# Altium schematic symbol library NikoboticsSch.SchLib: 50 symbols
Pins are listed as number, name and electrical type; pins without a type are passive.

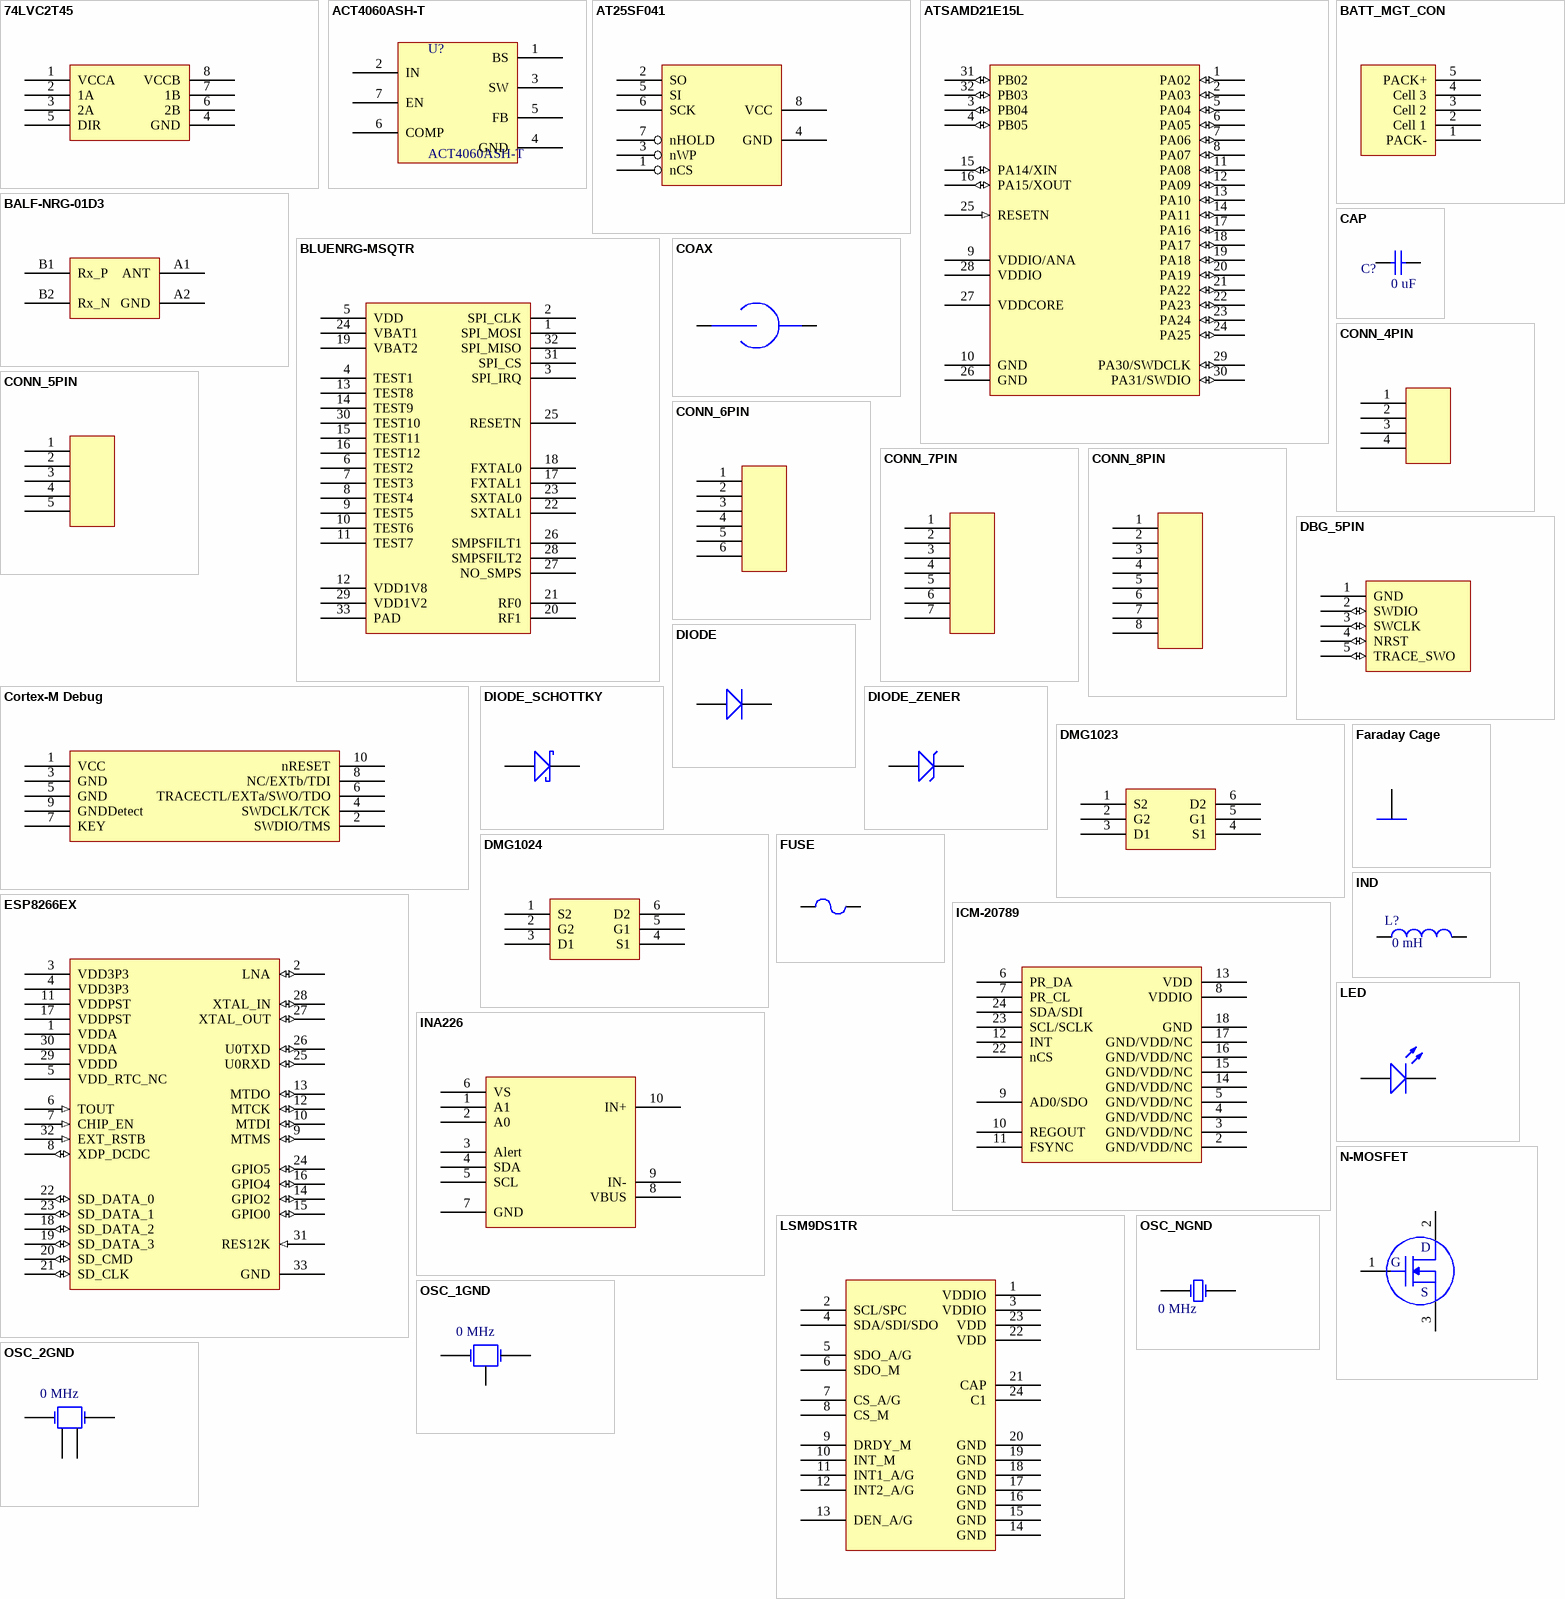
[diagram p0: symbols 74LVC2T45 to OSC_NGND]

## 74LVC2T45
designator U?
Voltage Level Translator Bidirectional 1 Circuit 2 Channel 420Mbps 8-XSON; ComponentLink1Description: DigiKey; ComponentLink1URL: https://www.digikey.com/product-detail/en/nexperia-usa-inc/74LVC2T45GT115/1727-4581-1-ND/2530960; ComponentLink2Description: Datasheet; ComponentLink2URL: https://assets.nexperia.com/documents/data-sheet/74LVC_LVCH2T45.pdf
pins: 1 VCCA, 2 1A, 3 2A, 4 GND, 5 DIR, 6 2B, 7 1B, 8 VCCB

## ACT4060ASH-T
designator U?
Buck Switching Regulator IC Positive Adjustable 1.293V 1 Output 2A; ComponentLink1Description: DigiKey; ComponentLink1URL: https://www.digikey.com/product-detail/en/active-semi-international-inc/ACT4060ASH-T/1488-1107-1-ND/7897251; ComponentLink2Description: Datasheet; ComponentLink2URL: https://active-semi.com/wp-content/uploads/ACT4060A_Datasheet.pdf
footprint TSOP127P600X155-8L (TSOP, 8-Leads, Body 4.90x3.90mm, Pitch 1.27mm, IPC High Density)
pins: 1 BS, 2 IN, 3 SW, 4 GND, 5 FB, 6 COMP, 7 EN, 8 NC hidden

## AT25SF041
designator U?
FLASH Memory IC 4Mb (512K x 8) SPI 104MHz  8-SOIC; ComponentLink1Description: DigiKey; ComponentLink1URL: https://www.digikey.com/product-detail/en/active-semi-international-inc/ACT4060ASH-T/1488-1107-1-ND/7897251; ComponentLink2Description: Datasheet; ComponentLink2URL: https://active-semi.com/wp-content/uploads/ACT4060A_Datasheet.pdf
footprint SOIC127P600X175-8L (SOIC, 8-Leads, Body 4.93x3.90mm, Pitch 1.27mm, IPC High Density)
pins: 1 nCS, 2 SO, 3 nWP, 4 GND (power), 5 SI, 6 SCK, 7 nHOLD, 8 VCC (power)

## ATSAMD21E15L
designator U?
ARM® Cortex®-M0+ SAM D21E Microcontroller IC 32-Bit 48MHz 32KB (32K x 8) FLASH; ComponentLink1Description: DigiKey; ComponentLink1URL: https://www.digikey.com/product-detail/en/microchip-technology/ATSAMD21E15L-MNT/1611-ATSAMD21E15L-MNTCT-ND/6832783; ComponentLink2Description: Datasheet; ComponentLink2URL: http://ww1.microchip.com/downloads/en/DeviceDoc/SAMD21-Family-DataSheet-DS40001882D.pdf
pins: 1 PA02 (io), 2 PA03 (io), 3 PB04 (io), 4 PB05 (io), 5 PA04 (io), 6 PA05 (io), 7 PA06 (io), 8 PA07 (io), 9 VDDIO/ANA (power), 10 GND (power), 11 PA08 (io), 12 PA09 (io), 13 PA10 (io), 14 PA11 (io), 15 PA14/XIN (io), 16 PA15/XOUT (io), 17 PA16 (io), 18 PA17 (io), 19 PA18 (io), 20 PA19 (io), 21 PA22 (io), 22 PA23 (io), 23 PA24 (io), 24 PA25 (io), 25 RESETN (in), 26 GND (power), 27 VDDCORE (power), 28 VDDIO (power), 29 PA30/SWDCLK (io), 30 PA31/SWDIO (io), 31 PB02 (io), 32 PB03 (io)

## BALF-NRG-01D3
designator U?
RF Balun 2.4GHz ~ 2.5GHz 50 / 50Ohm 4-WFBGA, FCBGA
pins: A1 ANT, A2 GND, B1 Rx_P, B2 Rx_N

## BATT_MGT_CON
designator J?, comment Battery Management Connection  (value not drawn)
Connection for Battery Management cable.
footprint S5B-ZR-SM4A-TF(LF)(SN)
pins: 1 PACK- (power), 2 Cell 1 (power), 3 Cell 2 (power), 4 Cell 3 (power), 5 PACK+ (power)

## BLUENRG-MSQTR
designator U?
IC RF TxRx + MCU Bluetooth Bluetooth v4.1 2.4GHz 32-VFQFN Exposed Pad; ComponentLink1Description: DigiKey; ComponentLink1URL: https://www.digikey.com/product-detail/en/stmicroelectronics/BLUENRG-MSQTR/497-15639-1-ND/5267982; ComponentLink2Description: Datasheet; ComponentLink2URL: https://www.st.com/content/ccc/resource/technical/document/datasheet/e8/76/3d/fb/28/e0/40/0b/DM00141263.pdf/files/DM00141263.pdf/jcr:content/translations/en.DM00141263.pdf; ComponentLink3Description: SPI Interface; ComponentLink3URL: https://www.st.com/content/ccc/resource/technical/document/user_manual/6d/a1/5b/6c/dc/ab/48/76/DM00162667.pdf/files/DM00162667.pdf/jcr:content/translations/en.DM00162667.pdf
pins: 1 SPI_MOSI, 2 SPI_CLK, 3 SPI_IRQ, 4 TEST1, 5 VDD, 6 TEST2, 7 TEST3, 8 TEST4, 9 TEST5, 10 TEST6, 11 TEST7, 12 VDD1V8, 13 TEST8, 14 TEST9, 15 TEST11, 16 TEST12, 17 FXTAL1, 18 FXTAL0, 19 VBAT2, 20 RF1, 21 RF0, 22 SXTAL1, 23 SXTAL0, 24 VBAT1, 25 RESETN, 26 SMPSFILT1, 27 NO_SMPS, 28 SMPSFILT2, 29 VDD1V2, 30 TEST10, 31 SPI_CS, 32 SPI_MISO, 33 PAD

## CAP
designator C?  value 0 uF  (hidden comment: CAP)
Standard Capacitor
pins: 1, 2
1 alternate drawing of the same symbol

## COAX
designator J?, comment Coaxial Connection  (value not drawn)
Coaxial Connection, e.g. to antennae
pins: 1 Pin, 2

## CONN_4PIN
designator J?, comment 4 Pin Connector  (value not drawn)
Standard 4 Pin Connector
pins: 1 Pin, 2 Pin, 3 Pin, 4 Pin

## CONN_5PIN
designator J?, comment 5 Pin Connector  (value not drawn)
Standard 5 Pin Connector
pins: 1 Pin, 2 Pin, 3 Pin, 4 Pin, 5 Pin

## CONN_6PIN
designator J?, comment 6 Pin Connector  (value not drawn)
Standard 6 Pin Connector
pins: 1 Pin, 2 Pin, 3 Pin, 4 Pin, 5 Pin, 6 Pin

## CONN_7PIN
designator J?, comment 7 Pin Connector  (value not drawn)
Standard 7 Pin Connector
pins: 1 Pin, 2 Pin, 3 Pin, 4 Pin, 5 Pin, 6 Pin, 7 Pin

## CONN_8PIN
designator J?, comment 8 Pin Connector  (value not drawn)
Standard 8 Pin Connector
pins: 1 Pin, 2 Pin, 3 Pin, 4 Pin, 5 Pin, 6 Pin, 7 Pin, 8 Pin

## Cortex-M Debug
designator J?, comment Debug Connector  (value not drawn)
10-Pin Cortex-M Debug Connector
pins: 1 VCC (power), 2 SWDIO/TMS, 3 GND (power), 4 SWDCLK/TCK, 5 GND (power), 6 TRACECTL/EXTa/SWO/TDO, 7 KEY, 8 NC/EXTb/TDI, 9 GNDDetect (power), 10 nRESET

## DBG_5PIN
designator J?, comment Debug Header  (value not drawn)
Five pin Debug Header SWD
pins: 1 GND (power), 2 SWDIO (io), 3 SWCLK (io), 4 NRST (io), 5 TRACE_SWO (io)

## DIODE
designator D?, comment Diode  (value not drawn)
Standard Diode
pins: 1 K, 2 A

## DIODE_SCHOTTKY
designator D?, comment Schottky Diode  (value not drawn)
Standard Schottky Diode
pins: 1 K, 2 A

## DIODE_ZENER
designator D?  (value not drawn)
Standard Zener Diode
pins: 1 K, 2 A

## DMG1023
designator U?
Mosfet Array 2 P-Channel (Dual) 20V 1.03A 530mW Surface Mount SOT-563; ComponentLink1Description: DigiKey; ComponentLink1URL: https://www.digikey.com/product-detail/en/diodes-incorporated/DMG1023UV-7/DMG1023UV-7DICT-ND/2270854; ComponentLink2Description: Datasheet; ComponentLink2URL: https://www.diodes.com/assets/Datasheets/ds31975.pdf
pins: 1 S2, 2 G2, 3 D1, 4 S1, 5 G1, 6 D2

## DMG1024
designator U?
Mosfet Array 2 N-Channel (Dual) 20V 1.38A 530mW Surface Mount SOT-563; ComponentLink3Description: DigiKey; ComponentLink3URL: https://www.digikey.com/product-detail/en/diodes-incorporated/DMG1024UV-7/DMG1024UV-7DICT-ND/2270855; ComponentLink4Description: Datasheet; ComponentLink4URL: https://www.diodes.com/assets/Datasheets/ds31974.pdf
pins: 1 S2, 2 G2, 3 D1, 4 S1, 5 G1, 6 D2

## ESP8266EX
designator U?
IC RF TxRx + MCU WiFi 802.11b/g/n 2.4GHz; ComponentLink1Description: DigiKey; ComponentLink1URL: https://www.digikey.com/product-detail/en/espressif-systems/ESP8266EX/1904-1001-1-ND/8028408; ComponentLink2Description: Datasheet; ComponentLink2URL: https://www.espressif.com/sites/default/files/documentation/0a-esp8266ex_datasheet_en.pdf
footprint *QFN50P500X500X80-33N
pins: 1 VDDA (power), 2 LNA (io), 3 VDD3P3 (power), 4 VDD3P3 (power), 5 VDD_RTC_NC (power), 6 TOUT (in), 7 CHIP_EN (in), 8 XDP_DCDC (io), 9 MTMS (io), 10 MTDI (io), 11 VDDPST (power), 12 MTCK (io), 13 MTDO (io), 14 GPIO2 (io), 15 GPIO0 (io), 16 GPIO4 (io), 17 VDDPST (power), 18 SD_DATA_2 (io), 19 SD_DATA_3 (io), 20 SD_CMD (io), 21 SD_CLK (io), 22 SD_DATA_0 (io), 23 SD_DATA_1 (io), 24 GPIO5 (io), 25 U0RXD (io), 26 U0TXD (io), 27 XTAL_OUT (io), 28 XTAL_IN (io), 29 VDDD (power), 30 VDDA (power), 31 RES12K (in), 32 EXT_RSTB (in), 33 GND (power)

## Faraday Cage
designator A?
Standard Faraday Cage
pins: 1 Pin

## FUSE
designator F?  (value not drawn)
Standard Fuse
pins: 1, 2

## ICM-20789
designator U?
Accelerometer, Gyroscope, Barometric Pressure Sensor. 3-Axis I2C; ComponentLink1Description: DigiKey; ComponentLink1URL: https://www.digikey.com/product-detail/en/tdk-invensense/ICM-20789/1428-1133-1-ND/7794714; ComponentLink2Description: Datasheet; ComponentLink2URL: http://www.invensense.com/wp-content/uploads/2017/10/DS-000169-ICM-20789-TYP-v1.3.pdf
footprint *PQFN50P400X400X146-24N
pins: 1 NC hidden, 2 GND/VDD/NC, 3 GND/VDD/NC, 4 GND/VDD/NC, 5 GND/VDD/NC, 6 PR_DA, 7 PR_CL, 8 VDDIO, 9 AD0/SDO, 10 REGOUT, 11 FSYNC, 12 INT, 13 VDD, 14 GND/VDD/NC, 15 GND/VDD/NC, 16 GND/VDD/NC, 17 GND/VDD/NC, 18 GND, 19 NC hidden, 20 NC hidden, 21 NC hidden, 22 nCS, 23 SCL/SCLK, 24 SDA/SDI

## INA226
designator U?
Current Monitor Regulator High/Low-Side 10mA
pins: 1 A1, 2 A0, 3 Alert, 4 SDA, 5 SCL, 6 VS, 7 GND, 8 VBUS, 9 IN-, 10 IN+

## IND
designator L?  value 0 mH  (hidden comment: IND)
Standard Inductor
pins: 1, 2

## LED
designator D?  (value not drawn)
Standard LED
pins: 1 K, 2 A

## LSM9DS1TR
designator U?
Accelerometer, Gyroscope, Magnetometer, Temperature, 3 Axis Sensor I²C, SPI Output; ComponentLink1Description: DigiKey; ComponentLink1URL: https://www.digikey.com/product-detail/en/stmicroelectronics/LSM9DS1TR/497-14946-1-ND/4988079; ComponentLink2Description: Datasheet; ComponentLink2URL: https://www.st.com/content/ccc/resource/technical/document/datasheet/1e/3f/2a/d6/25/eb/48/46/DM00103319.pdf/files/DM00103319.pdf/jcr:content/translations/en.DM00103319.pdf
footprint *PQFN43P300X350X102-24N
pins: 1 VDDIO, 2 SCL/SPC, 3 VDDIO, 4 SDA/SDI/SDO, 5 SDO_A/G, 6 SDO_M, 7 CS_A/G, 8 CS_M, 9 DRDY_M, 10 INT_M, 11 INT1_A/G, 12 INT2_A/G, 13 DEN_A/G, 14 GND, 15 GND, 16 GND, 17 GND, 18 GND, 19 GND, 20 GND, 21 CAP, 22 VDD, 23 VDD, 24 C1

## N-MOSFET
designator T?, comment N-CHAN
Standard N-Channel MOSFET. Check pins before designing footprint.
pins: 1 Pin, 2 Pin, 3 Pin
text: D; G; S

## OSC_1GND
designator X?, comment value 0 MHz  (hidden comment: Crystal Oscillator)
Standard Crystal Oscillator with a ground connection.
pins: 1 X1, 2 X2, 3 GND

## OSC_2GND
designator X?, comment value 0 MHz  (hidden comment: Crystal Oscillator)
Standard Crystal Oscillator with two ground connections.
pins: 1 X1, 2 GND, 3 X2, 4 GND

## OSC_NGND
designator X?, comment value 0 MHz  (hidden comment: Crystal Oscillator)
Standard Crystal Oscillator with no ground connection.
pins: 1 X1, 2 X2

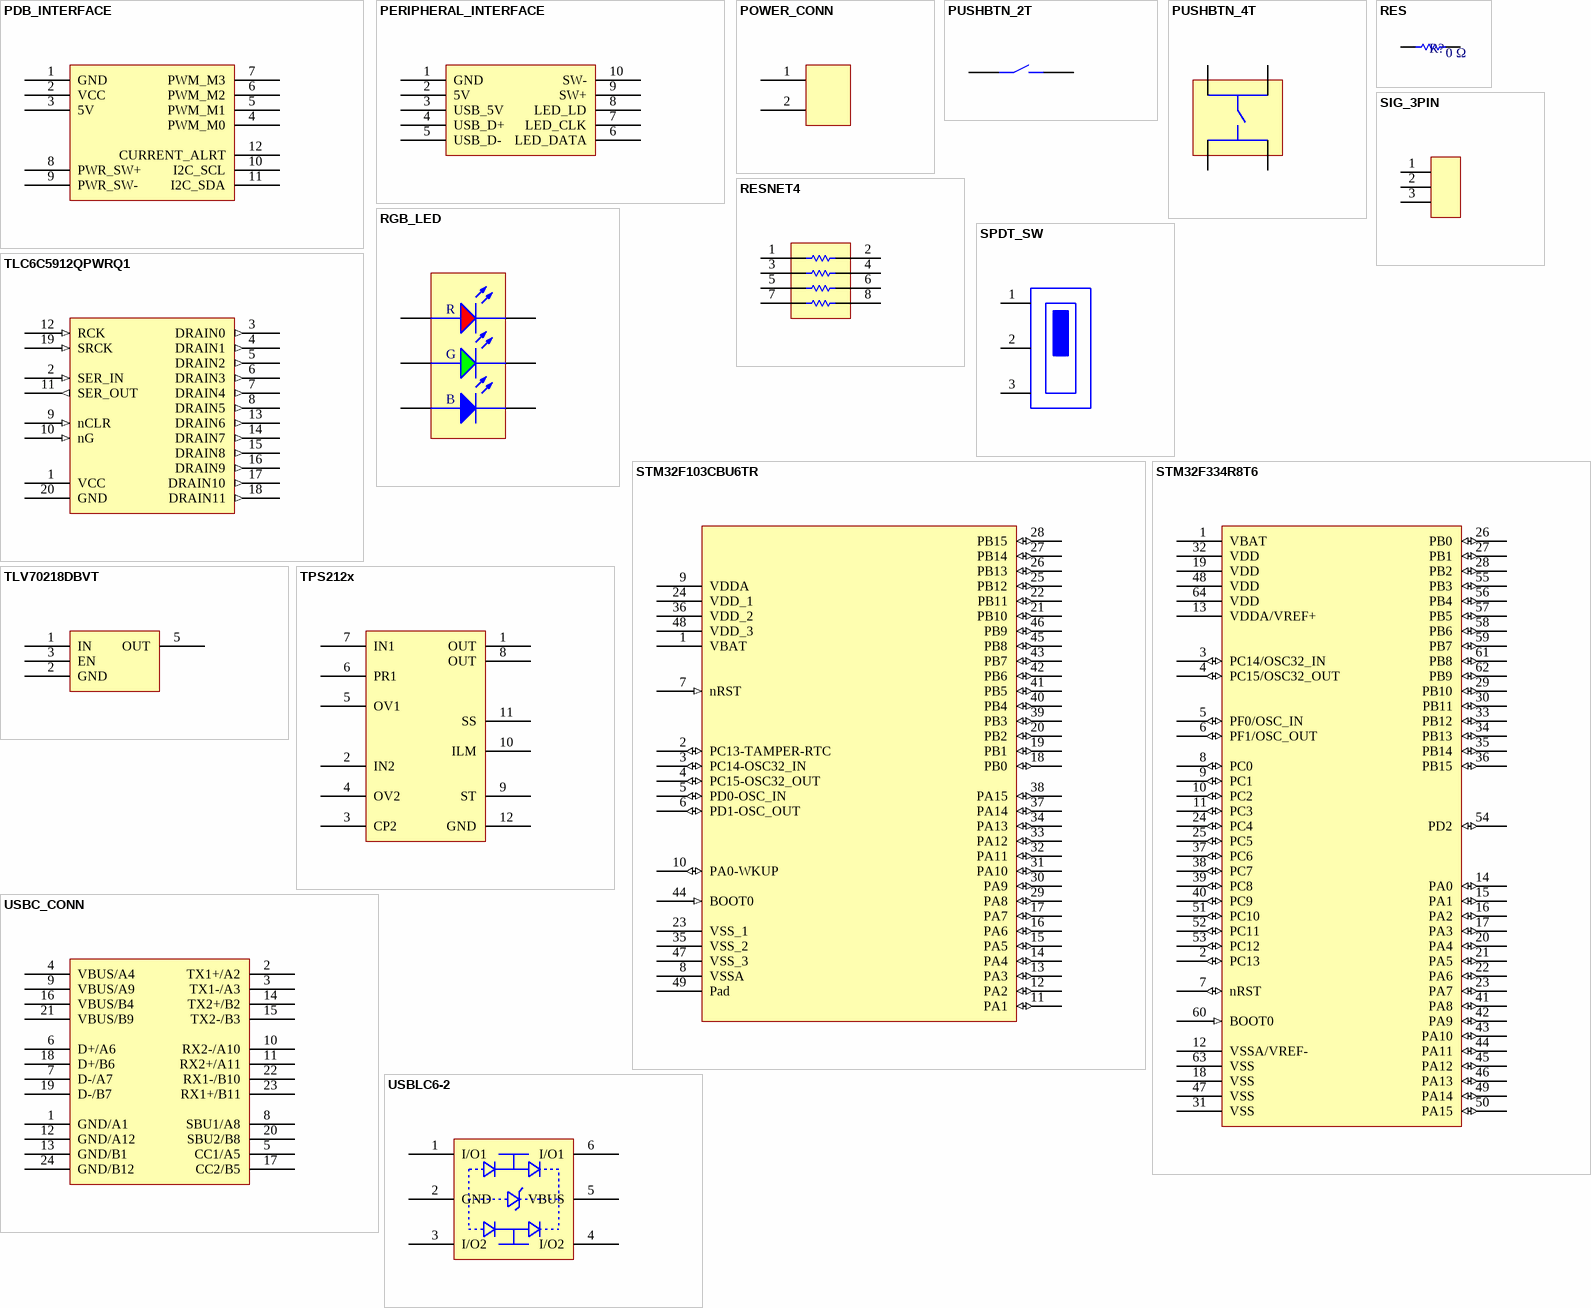
[diagram p1: symbols PDB_INTERFACE to USBLC6-2]

## PDB_INTERFACE
designator J?, comment Power Interface
Interface between power board and control board.
pins: 1 GND, 2 VCC, 3 5V, 4 PWM_M0, 5 PWM_M1, 6 PWM_M2, 7 PWM_M3, 8 PWR_SW+, 9 PWR_SW-, 10 I2C_SCL, 11 I2C_SDA, 12 CURRENT_ALRT

## PERIPHERAL_INTERFACE
designator J?, comment Peripheral Interface
Interface between peripheral board and control board.
footprint SFV10R-2STE1HLF
pins: 1 GND, 2 5V, 3 USB_5V, 4 USB_D+, 5 USB_D-, 6 LED_DATA, 7 LED_CLK, 8 LED_LD, 9 SW+, 10 SW-

## POWER_CONN
designator J?, comment Power Connector  (value not drawn)
Standard Power Connector
pins: 1 Pin, 2 Pin

## PUSHBTN_2T
designator S?, comment Pushbutton  (value not drawn)
Standard Pushbutton with 4 Terminals
pins: 1 Pin, 2 Pin

## PUSHBTN_4T
designator S?, comment Pushbutton  (value not drawn)
Standard Pushbutton with 4 Terminals
pins: 1   , 2 Pin, 3 Pin, 4 Pin

## RES
designator R?  value 0 Ω  (hidden comment: RES)
Standard Resistor
pins: 1, 2
1 alternate drawing of the same symbol

## RESNET4
designator R?, comment RESNET  (value not drawn)
Standard Resistor Network with 4 Resistors
footprint CAC-80P325X165-8L (Chip Array, Concave, 8-Leads, Pitch 0.80mm,  Body 3.25x1.65mm,  IPC High Density)
pins: 1 Pin, 2 Pin, 3 Pin, 4 Pin, 5 Pin, 6 Pin, 7 Pin, 8 Pin

## RGB_LED
designator D?, comment RGB LED  (value not drawn)
3-Channel LED (RGB)
footprint PLCC180P550X550X150-8N (Leaded Chip Carrier, 8-Leads, Body 5.50x5.50mm, Pitch 1.800mm, IPC Medium Density)
pins: 1 BC, 2 GC, 3 RC, 4 RA, 5 GA, 6 BA
text: R; G; B

## SIG_3PIN
designator J?, comment 3-Pin Signal  (value not drawn)
Standard 3-Pin Signal Connection
footprint Molex 0022232031
pins: 1 Pin, 2 Pin, 3 Pin

## SPDT_SW
designator S?  (value not drawn)
Standard Single-Pole Double-Throw Switch. Check pinning before assigning footprint.
footprint CL-SB-12B-01T-SLIDE
pins: 1 Pin, 2 Pin, 3 Pin

## STM32F103CBU6TR
designator U?
IC MCU 32BIT 128KB FLASH LQFP48; ComponentLink1Description: DigiKey; ComponentLink1URL: https://www.digikey.com/product-detail/en/stmicroelectronics/STM32F103CBU6TR/497-18757-1-ND/9958418; ComponentLink2Description: Datasheet; ComponentLink2URL: https://www.st.com/resource/en/datasheet/stm32f103cb.pdf
pins: 1 VBAT (power), 2 PC13-TAMPER-RTC (io), 3 PC14-OSC32_IN (io), 4 PC15-OSC32_OUT (io), 5 PD0-OSC_IN (io), 6 PD1-OSC_OUT (io), 7 nRST (in), 8 VSSA (power), 9 VDDA (power), 10 PA0-WKUP (io), 11 PA1 (io), 12 PA2 (io), 13 PA3 (io), 14 PA4 (io), 15 PA5 (io), 16 PA6 (io), 17 PA7 (io), 18 PB0 (io), 19 PB1 (io), 20 PB2 (io), 21 PB10 (io), 22 PB11 (io), 23 VSS_1 (power), 24 VDD_1 (power), 25 PB12 (io), 26 PB13 (io), 27 PB14 (io), 28 PB15 (io), 29 PA8 (io), 30 PA9 (io), 31 PA10 (io), 32 PA11 (io), 33 PA12 (io), 34 PA13 (io), 35 VSS_2 (power), 36 VDD_2 (power), 37 PA14 (io), 38 PA15 (io), 39 PB3 (io), 40 PB4 (io), 41 PB5 (io), 42 PB6 (io), 43 PB7 (io), 44 BOOT0 (in), 45 PB8 (io), 46 PB9 (io), 47 VSS_3 (power), 48 VDD_3 (power), 49 Pad (power)

## STM32F334R8T6
designator U?
ARM® Cortex®-M4 STM32F3 Microcontroller IC 32-Bit 72MHz 64KB (64K x 8) FLASH 64-LQFP (10x10); ComponentLink1Description: DigiKey; ComponentLink1URL: https://www.digikey.com/product-detail/en/stmicroelectronics/STM32F334R8T6/497-14955-ND/4989177; ComponentLink2Description: Datasheet; ComponentLink2URL: https://www.st.com/content/ccc/resource/technical/document/datasheet/d1/cd/3d/18/a2/2c/4e/d0/DM00097745.pdf/files/DM00097745.pdf/jcr:content/translations/en.DM00097745.pdf
footprint TSQFP50P1190X1190X160-64L (TSQFP, 64-Leads, Body 7.80x7.80mm, Pitch 0.50mm, IPC High Density)
pins: 1 VBAT (power), 2 PC13 (io), 3 PC14/OSC32_IN (io), 4 PC15/OSC32_OUT (io), 5 PF0/OSC_IN (io), 6 PF1/OSC_OUT (io), 7 nRST (io), 8 PC0 (io), 9 PC1 (io), 10 PC2 (io), 11 PC3 (io), 12 VSSA/VREF- (power), 13 VDDA/VREF+ (power), 14 PA0 (io), 15 PA1 (io), 16 PA2 (io), 17 PA3 (io), 18 VSS (power), 19 VDD (power), 20 PA4 (io), 21 PA5 (io), 22 PA6 (io), 23 PA7 (io), 24 PC4 (io), 25 PC5 (io), 26 PB0 (io), 27 PB1 (io), 28 PB2 (io), 29 PB10 (io), 30 PB11 (io), 31 VSS (power), 32 VDD (power), 33 PB12 (io), 34 PB13 (io), 35 PB14 (io), 36 PB15 (io), 37 PC6 (io), 38 PC7 (io), 39 PC8 (io), 40 PC9 (io), 41 PA8 (io), 42 PA9 (io), 43 PA10 (io), 44 PA11 (io), 45 PA12 (io), 46 PA13 (io), 47 VSS (power), 48 VDD (power), 49 PA14 (io), 50 PA15 (io), 51 PC10 (io), 52 PC11 (io), 53 PC12 (io), 54 PD2 (io), 55 PB3 (io), 56 PB4 (io), 57 PB5 (io), 58 PB6 (io), 59 PB7 (io), 60 BOOT0 (in), 61 PB8 (io), 62 PB9 (io), 63 VSS (power), 64 VDD (power)

## TLC6C5912QPWRQ1
designator U?
LED Driver IC 12 Output Linear Shift Register 50mA; ComponentLink1Description: DigiKey; ComponentLink1URL: https://www.digikey.com/product-detail/en/texas-instruments/TLC6C5912QPWRQ1/296-39249-1-ND/5143241; ComponentLink2Description: Datasheet; ComponentLink2URL: http://www.ti.com/lit/ds/symlink/tlc6c5912-q1.pdf
footprint TSOP65P640X120-20L (TSOP, 20-Leads, Body 6.50x4.40mm, Pitch 0.65mm, IPC High Density)
pins: 1 VCC (power), 2 SER_IN (in), 3 DRAIN0 (out), 4 DRAIN1 (out), 5 DRAIN2 (out), 6 DRAIN3 (out), 7 DRAIN4 (out), 8 DRAIN5 (out), 9 nCLR (in), 10 nG (in), 11 SER_OUT (out), 12 RCK (in), 13 DRAIN6 (out), 14 DRAIN7 (out), 15 DRAIN8 (out), 16 DRAIN9 (out), 17 DRAIN10 (out), 18 DRAIN11 (out), 19 SRCK (in), 20 GND (power)

## TLV70218DBVT
designator U?, comment TLV70218DBVT_SOT
Linear Voltage Regulator IC Positive Fixed 1 Output  300mA / SOT-23-5 ONLY (CHECK D/S FOR WSON); ComponentLink1Description: DigiKey; ComponentLink1URL: https://www.digikey.com/product-detail/en/texas-instruments/TLV70218DBVT/296-27889-1-ND/2425103; ComponentLink2Description: Datasheet; ComponentLink2URL: http://www.ti.com/lit/ds/symlink/tlv702.pdf
pins: 1 IN (power), 2 GND (power), 3 EN, 4 NC hidden, 5 OUT (power)

## TPS212x
designator U?
General Purpose PMIC - PWR MGMT BATTERY MGMT; ComponentLink1Description: DigiKey; ComponentLink1URL: https://www.digikey.com/product-detail/en/texas-instruments/TPS2121RUXR/296-53410-1-ND/9859004; ComponentLink2Description: Datasheet; ComponentLink2URL: http://www.ti.com/lit/ds/symlink/tps2120.pdf
pins: 1 OUT, 2 IN2, 3 CP2, 4 OV2, 5 OV1, 6 PR1, 7 IN1, 8 OUT, 9 ST, 10 ILM, 11 SS, 12 GND

## USBC_CONN
designator J?, comment USB C Connection
Standard USBC Connection
footprint AMPHENOL_12401610E4#2A_12401610E4#2A(Primary)
pins: 1 GND/A1, 2 TX1+/A2, 3 TX1-/A3, 4 VBUS/A4, 5 CC1/A5, 6 D+/A6, 7 D-/A7, 8 SBU1/A8, 9 VBUS/A9, 10 RX2-/A10, 11 RX2+/A11, 12 GND/A12, 13 GND/B1, 14 TX2+/B2, 15 TX2-/B3, 16 VBUS/B4, 17 CC2/B5, 18 D+/B6, 19 D-/B7, 20 SBU2/B8, 21 VBUS/B9, 22 RX1-/B10, 23 RX1+/B11, 24 GND/B12

## USBLC6-2
designator U?, comment USBLC6-2SC6
17V Clamp 5A (8/20µs) Ipp TVS Diode; ComponentLink1Description: DigiKey; ComponentLink1URL: https://www.digikey.com/product-detail/en/stmicroelectronics/USBLC6-2SC6/497-5235-1-ND/1121688; ComponentLink2Description: Datasheet; ComponentLink2URL: https://www.st.com/content/ccc/resource/technical/document/datasheet/06/1d/48/9c/6c/20/4a/b2/CD00050750.pdf/files/CD00050750.pdf/jcr:content/translations/en.CD00050750.pdf
pins: 1 I/O1, 2 GND, 3 I/O2, 4 I/O2, 5 VBUS, 6 I/O1